# Altium footprint library lib.PcbLib: 19 footprints (part 2 of 2)
Each footprint in its own frame and in the unit in brackets; x right, y up, seen from the top. Pads: shape width x height; smd on the part's side, far side on the other; paste and mask are expansions set on the pad; w line width, h text height; cw(c..) or ccw(c..) is an arc to the next point about the centre after c.
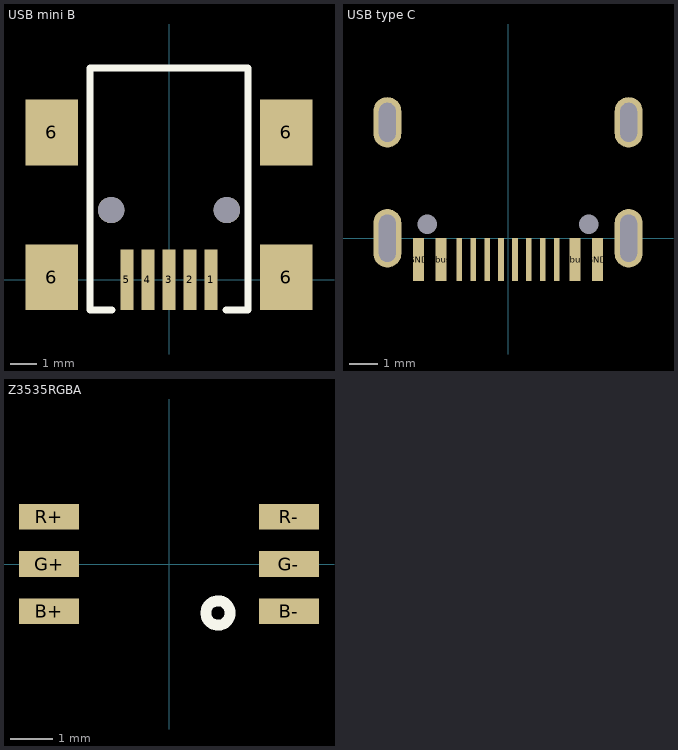
[diagram p1: the footprints below, top view; thin cyan lines are the x and y axes]

## USB mini B [mm] "C105424"
pads (11):
  rect 0.5x2.3 smd: 1(1.6,0) 2(0.8,0) 3(0,0) 4(-0.8,0) 5(-1.6,0)
  rect 2x2.5 smd: 6(-4.45,0.1) 6(-4.45,5.6) 6(4.45,0.1) 6(4.45,5.6)
  round 1 hole 1: ""(-2.2,2.65) ""(2.2,2.65)
Top Overlay:
  lines w0.254: -2.166,-1.15 -3,-1.15 -3,8.05 3,8.05 3,-1.15 2.166,-1.15
Drill Guide:
  lines w0.254: 5.461,2.65 5.461,6.858

## USB type C [mm]
pads (18):
  rect 0.2x1.524 smd: A5(1.25,-0.762) A6(0.25,-0.762) A7(-0.25,-0.762) A8(-1.25,-0.762) B5(-1.75,-0.762) B6(-0.75,-0.762) B7(0.75,-0.762) B8(1.75,-0.762)
  rect 0.4x1.524 smd: GND(-3.2,-0.762) GND(3.2,-0.762) Vbus(-2.4,-0.762) Vbus(2.4,-0.762)
  oval 1x2.1 hole 1.7 slot 0.6 at 0 deg: ""(-4.32,0) ""(4.32,0)
  oval 1x1.8 hole 1.4 slot 0.6 at 0 deg: ""(-4.32,4.15)
  round 0 hole 0.7 unplated: ""(-2.89,0.5) ""(2.89,0.5)
  oval 1x1.8 hole 1.4 slot 0.6 at 0 deg unplated: ""(4.32,4.15)

## Z3535RGBA [mm]
pads (6):
  rect 1.4x0.6 smd: B+(-2.8,-1.1) B-(2.8,-1.1) G+(-2.8,0) G-(2.8,0) R+(-2.8,1.1) R-(2.8,1.1)
Top Overlay:
  circle w0.254: c1.143,-1.143 r0.284